# Altium schematic symbol library ECB02蓝牙模块原理图库.SchLib: 14 symbols
Pins are listed as number, name and electrical type; pins without a type are passive.

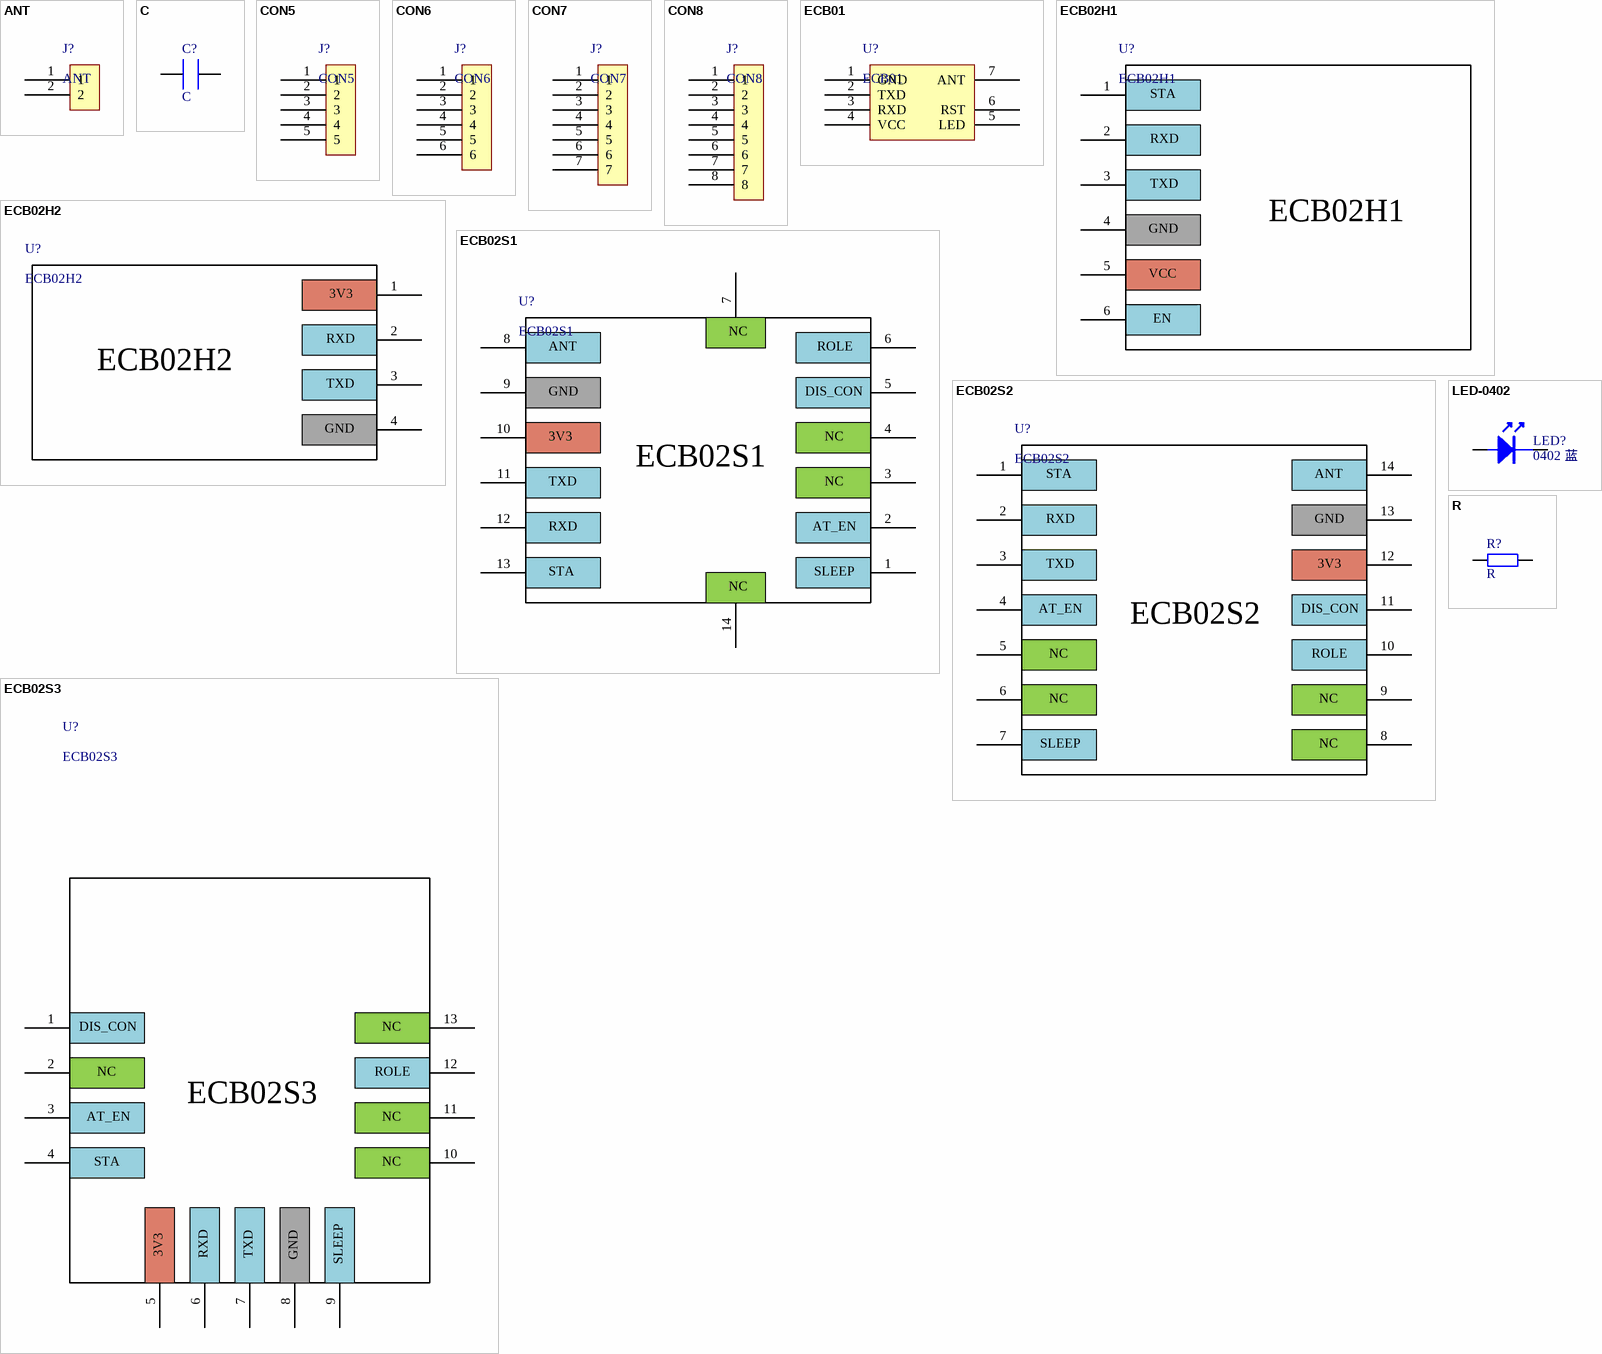
[diagram p0: symbols ANT to R]

## ANT
designator J?
footprint ANT-2.4G-1
footprint ANT-2.4G-2
footprint ANT-2.4G-3
footprint ANT-IPEX-1
footprint ANT-IPEX-3
footprint ANT-SMA
footprint ANT-SMD-2051
footprint ANT-SMD-3216
pins: 1, 2

## C
designator C?
类型: 电容; 封装: 0402; 参数规格: *; 厂家: *; 厂家料号: *
footprint 0402
pins: 1, 2

## CON5
designator J?
footprint SIP05
pins: 1, 2, 3, 4, 5

## CON6
designator J?
footprint SIP06
pins: 1, 2, 3, 4, 5, 6

## CON7
designator J?
footprint SIP07
pins: 1, 2, 3, 4, 5, 6, 7

## CON8
designator J?
footprint SIP08
pins: 1, 2, 3, 4, 5, 6, 7, 8

## ECB01
designator U?
footprint ECB01
pins: 1 GND, 2 TXD, 3 RXD, 4 VCC, 5 LED, 6 RST, 7 ANT

## ECB02H1
designator U?
pins: 1, 2, 3, 4, 5 VCC, 6
text: STA; RXD; TXD; GND; EN

## ECB02H2
designator U?
pins: 1, 2, 3, 4
text: 3V3; RXD; TXD; GND

## ECB02S1
designator U?
pins: 1, 2, 3, 4, 5, 6, 7, 8, 9, 10, 11, 12, 13 STA, 14
text: NC; ANT; ROLE; GND; DIS_CON; 3V3; TXD; RXD; AT_EN; SLEEP

## ECB02S2
designator U?
pins: 1, 2, 3, 4, 5, 6, 7, 8, 9, 10, 11, 12, 13, 14
text: STA; ANT; RXD; GND; TXD; 3V3; AT_EN; DIS_CON; NC; ROLE; SLEEP

## ECB02S3
designator U?
pins: 1, 2, 3, 4, 5, 6, 7, 8, 9, 10, 11, 12, 13
text: DIS_CON; NC; ROLE; AT_EN; STA; 3V3; RXD; TXD; GND; SLEEP

## LED-0402
designator LED?, comment 0402 蓝
封装: 0402; 类型: LED; 厂家: *; 厂家料号: *; 参数规格: *; 参考价格: *; 编号: *; 备注: *
footprint 0402-led
pins: 1, 2

## R
designator R?
类型: 电阻; 封装: 0402; 厂家: *; 厂家料号: *; 参数规格: *; 参考价格: *; 编号: *; 备注: *
footprint 0402
pins: 1, 2